# Altium footprint library LTV-847S.PcbLib: 3 footprints
Each footprint in its own frame and in the unit in brackets; x right, y up, seen from the top. Pads: shape width x height; smd on the part's side, far side on the other; paste and mask are expansions set on the pad; w line width, h text height; cw(c..) or ccw(c..) is an arc to the next point about the centre after c.
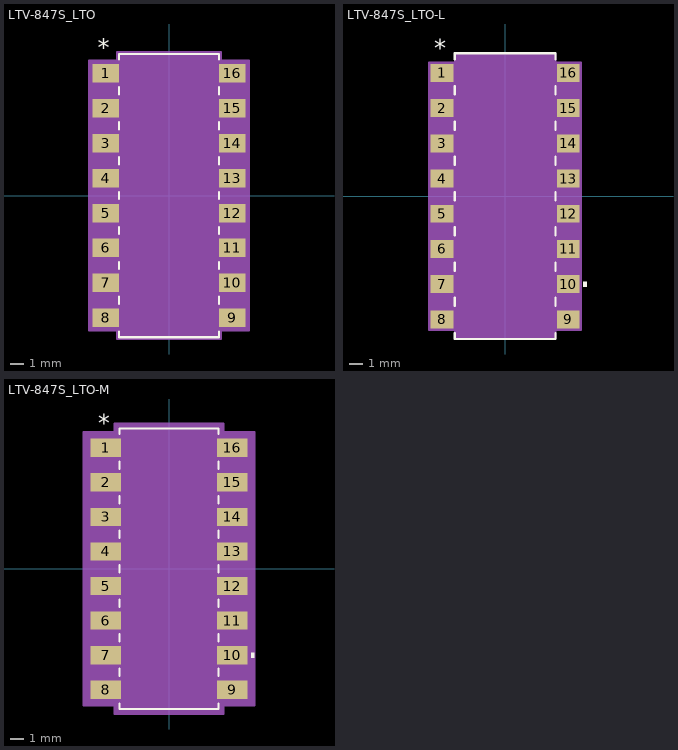
[diagram p0: the footprints below, top view; thin cyan lines are the x and y axes]

## LTV-847S_LTO [mil]
pads (16):
  rect 77x53 smd paste+0 mask+0: 1(-181,350) 2(-181,250) 3(-181,150) 4(-181,50) 5(-181,-50) 6(-181,-150) 7(-181,-250) 8(-181,-350) 9(181,-350) 10(181,-250) 11(181,-150) 12(181,-50) 13(181,50) 14(181,150) 15(181,250) 16(181,350)
Top Overlay:
  lines w6: -143,-389.6 -143,-405.5 143,-405.5 143,-389.6 ; -143,-310.4 -143,-289.6 ; -143,-210.4 -143,-189.6 ; -143,-110.4 -143,-89.6 ; -143,-10.4 -143,10.4 ; -143,89.6 -143,110.4 ; -143,189.6 -143,210.4 ; -143,289.6 -143,310.4 ; -143,389.6 -143,405.5 143,405.5 143,389.6 ; 143,-310.4 143,-289.6 ; 143,-210.4 143,-189.6 ; 143,-110.4 143,-89.6 ; 143,-10.4 143,10.4 ; 143,89.6 143,110.4 ; 143,189.6 143,210.4 ; 143,289.6 143,310.4
  text "*" at -203.5,398 h50
Mechanical 13:
  lines w0: -12,400.5 ccw(c0,400.5) 12,400.5
  lines w1: -205.5,-375.5 -205.5,-324.5 -138,-324.5 -138,-375.5 -205.5,-375.5 ; -205.5,-275.5 -205.5,-224.5 -138,-224.5 -138,-275.5 -205.5,-275.5 ; -205.5,-175.5 -205.5,-124.5 -138,-124.5 -138,-175.5 -205.5,-175.5 ; -205.5,-75.5 -205.5,-24.5 -138,-24.5 -138,-75.5 -205.5,-75.5 ; -205.5,24.5 -205.5,75.5 -138,75.5 -138,24.5 -205.5,24.5 ; -205.5,124.5 -205.5,175.5 -138,175.5 -138,124.5 -205.5,124.5 ; -205.5,224.5 -205.5,275.5 -138,275.5 -138,224.5 -205.5,224.5 ; -205.5,324.5 -205.5,375.5 -138,375.5 -138,324.5 -205.5,324.5 ; -138,-400.5 138,-400.5 138,400.5 -138,400.5 -138,-400.5 ; 138,-375.5 138,-324.5 205.5,-324.5 205.5,-375.5 138,-375.5 ; 138,-275.5 138,-224.5 205.5,-224.5 205.5,-275.5 138,-275.5 ; 138,-175.5 138,-124.5 205.5,-124.5 205.5,-175.5 138,-175.5 ; 138,-75.5 138,-24.5 205.5,-24.5 205.5,-75.5 138,-75.5 ; 138,24.5 138,75.5 205.5,75.5 205.5,24.5 138,24.5 ; 138,124.5 138,175.5 205.5,175.5 205.5,124.5 138,124.5 ; 138,224.5 138,275.5 205.5,275.5 205.5,224.5 138,224.5 ; 138,324.5 138,375.5 205.5,375.5 205.5,324.5 138,324.5
  text "*" at -135.5,347.5 h50
Mechanical 15:
  region: -148,-386.5 -229.5,-386.5 -229.5,386.5 -148,386.5 -148,410.5 148,410.5 148,386.5 229.5,386.5 229.5,-386.5 148,-386.5 148,-410.5 -148,-410.5
  lines w6: -229.5,-386.5 -229.5,386.5 -148,386.5 -148,410.5 148,410.5 148,386.5 229.5,386.5 229.5,-386.5 148,-386.5 148,-410.5 -148,-410.5 -148,-386.5 -229.5,-386.5
3D body: height 157.09, standoff 0, extent -205.51,-400.51 205.51,400.51

## LTV-847S_LTO-L [mil]
pads (16):
  rect 65x51 smd paste+0 mask+0: 1(-179,350) 2(-179,250) 3(-179,150) 4(-179,50) 5(-179,-50) 6(-179,-150) 7(-179,-250) 8(-179,-350) 9(179,-350) 10(179,-250) 11(179,-150) 12(179,-50) 13(179,50) 14(179,150) 15(179,250) 16(179,350)
Top Overlay:
  region: 221.5,-242.5 231.5,-242.5 231.5,-257.5 221.5,-257.5
  lines w6: -143,-388.12 -143,-405.5 143,-405.5 143,-388.12 ; -143,-311.88 -143,-288.12 ; -143,-211.88 -143,-188.12 ; -143,-111.88 -143,-88.12 ; -143,-11.88 -143,11.88 ; -143,88.12 -143,111.88 ; -143,188.12 -143,211.88 ; -143,288.12 -143,311.88 ; -143,388.12 -143,405.5 143,405.5 143,388.12 ; 143,-311.88 143,-288.12 ; 143,-211.88 143,-188.12 ; 143,-111.88 143,-88.12 ; 143,-11.88 143,11.88 ; 143,88.12 143,111.88 ; 143,188.12 143,211.88 ; 143,288.12 143,311.88
  text "*" at -201.5,396 h50
Mechanical 13:
  lines w0: -12,400.5 ccw(c0,400.5) 12,400.5
  lines w1: -205.5,-375.5 -205.5,-324.5 -138,-324.5 -138,-375.5 -205.5,-375.5 ; -205.5,-275.5 -205.5,-224.5 -138,-224.5 -138,-275.5 -205.5,-275.5 ; -205.5,-175.5 -205.5,-124.5 -138,-124.5 -138,-175.5 -205.5,-175.5 ; -205.5,-75.5 -205.5,-24.5 -138,-24.5 -138,-75.5 -205.5,-75.5 ; -205.5,24.5 -205.5,75.5 -138,75.5 -138,24.5 -205.5,24.5 ; -205.5,124.5 -205.5,175.5 -138,175.5 -138,124.5 -205.5,124.5 ; -205.5,224.5 -205.5,275.5 -138,275.5 -138,224.5 -205.5,224.5 ; -205.5,324.5 -205.5,375.5 -138,375.5 -138,324.5 -205.5,324.5 ; -138,-400.5 138,-400.5 138,400.5 -138,400.5 -138,-400.5 ; 138,-375.5 138,-324.5 205.5,-324.5 205.5,-375.5 138,-375.5 ; 138,-275.5 138,-224.5 205.5,-224.5 205.5,-275.5 138,-275.5 ; 138,-175.5 138,-124.5 205.5,-124.5 205.5,-175.5 138,-175.5 ; 138,-75.5 138,-24.5 205.5,-24.5 205.5,-75.5 138,-75.5 ; 138,24.5 138,75.5 205.5,75.5 205.5,24.5 138,24.5 ; 138,124.5 138,175.5 205.5,175.5 205.5,124.5 138,124.5 ; 138,224.5 138,275.5 205.5,275.5 205.5,224.5 138,224.5 ; 138,324.5 138,375.5 205.5,375.5 205.5,324.5 138,324.5
  text "*" at -135.5,347.5 h50
Mechanical 15:
  region: -142,-379.5 -215.5,-379.5 -215.5,379.5 -142,379.5 -142,404.5 142,404.5 142,379.5 215.5,379.5 215.5,-379.5 142,-379.5 142,-404.5 -142,-404.5
  lines w6: -215.5,-379.5 -215.5,379.5 -142,379.5 -142,404.5 142,404.5 142,379.5 215.5,379.5 215.5,-379.5 142,-379.5 142,-404.5 -142,-404.5 -142,-379.5 -215.5,-379.5
3D body: height 157.09, standoff 0, extent -205.51,-400.51 205.51,400.51

## LTV-847S_LTO-M [mil]
pads (16):
  rect 89x53 smd paste+0 mask+0: 1(-183,350) 2(-183,250) 3(-183,150) 4(-183,50) 5(-183,-50) 6(-183,-150) 7(-183,-250) 8(-183,-350) 9(183,-350) 10(183,-250) 11(183,-150) 12(183,-50) 13(183,50) 14(183,150) 15(183,250) 16(183,350)
Top Overlay:
  region: 237.5,-242.5 247.5,-242.5 247.5,-257.5 237.5,-257.5
  lines w6: -143,-389.6 -143,-405.5 143,-405.5 143,-389.6 ; -143,-310.4 -143,-289.6 ; -143,-210.4 -143,-189.6 ; -143,-110.4 -143,-89.6 ; -143,-10.4 -143,10.4 ; -143,89.6 -143,110.4 ; -143,189.6 -143,210.4 ; -143,289.6 -143,310.4 ; -143,389.6 -143,405.5 143,405.5 143,389.6 ; 143,-310.4 143,-289.6 ; 143,-210.4 143,-189.6 ; 143,-110.4 143,-89.6 ; 143,-10.4 143,10.4 ; 143,89.6 143,110.4 ; 143,189.6 143,210.4 ; 143,289.6 143,310.4
  text "*" at -205.5,398 h50
Mechanical 13:
  lines w0: -12,400.5 ccw(c0,400.5) 12,400.5
  lines w1: -205.5,-375.5 -138,-375.5 -138,-324.5 -205.5,-324.5 -205.5,-375.5 ; -205.5,-275.5 -138,-275.5 -138,-224.5 -205.5,-224.5 -205.5,-275.5 ; -205.5,-175.5 -138,-175.5 -138,-124.5 -205.5,-124.5 -205.5,-175.5 ; -205.5,-75.5 -138,-75.5 -138,-24.5 -205.5,-24.5 -205.5,-75.5 ; -205.5,24.5 -138,24.5 -138,75.5 -205.5,75.5 -205.5,24.5 ; -205.5,124.5 -138,124.5 -138,175.5 -205.5,175.5 -205.5,124.5 ; -205.5,224.5 -138,224.5 -138,275.5 -205.5,275.5 -205.5,224.5 ; -205.5,324.5 -138,324.5 -138,375.5 -205.5,375.5 -205.5,324.5 ; -138,-400.5 -138,400.5 138,400.5 138,-400.5 -138,-400.5 ; 138,-375.5 205.5,-375.5 205.5,-324.5 138,-324.5 138,-375.5 ; 138,-275.5 205.5,-275.5 205.5,-224.5 138,-224.5 138,-275.5 ; 138,-175.5 205.5,-175.5 205.5,-124.5 138,-124.5 138,-175.5 ; 138,-75.5 205.5,-75.5 205.5,-24.5 138,-24.5 138,-75.5 ; 138,24.5 205.5,24.5 205.5,75.5 138,75.5 138,24.5 ; 138,124.5 205.5,124.5 205.5,175.5 138,175.5 138,124.5 ; 138,224.5 205.5,224.5 205.5,275.5 138,275.5 138,224.5 ; 138,324.5 205.5,324.5 205.5,375.5 138,375.5 138,324.5
  text "*" at -135.5,347.5 h50
Mechanical 15:
  region: -158,-396.5 -247.5,-396.5 -247.5,396.5 -158,396.5 -158,420.5 158,420.5 158,396.5 247.5,396.5 247.5,-396.5 158,-396.5 158,-420.5 -158,-420.5
  lines w6: -247.5,-396.5 -158,-396.5 -158,-420.5 158,-420.5 158,-396.5 247.5,-396.5 247.5,396.5 158,396.5 158,420.5 -158,420.5 -158,396.5 -247.5,396.5 -247.5,-396.5
3D body: height 157.09, standoff 0, extent -205.51,-400.51 205.51,400.51